# EAGLE library part AVR-ISP-6 (library candrian)
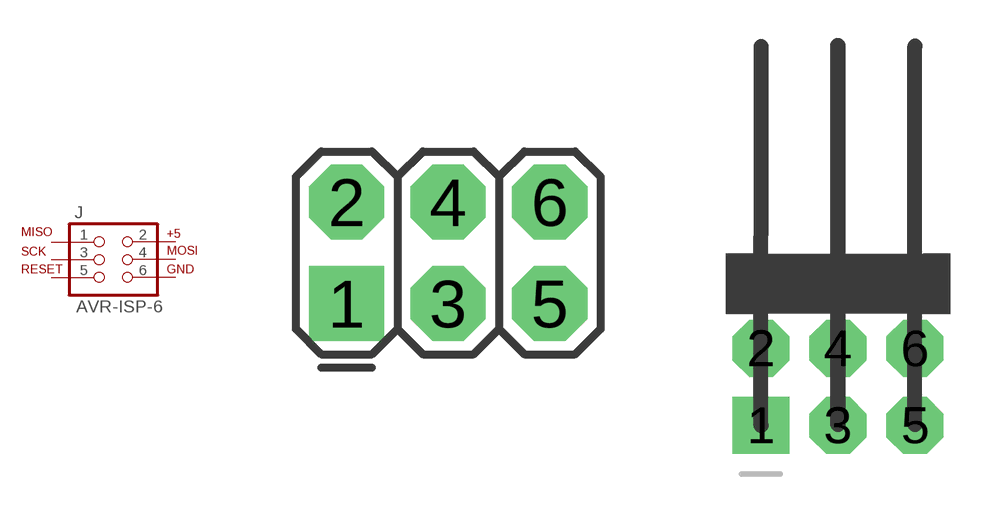
[diagram p8: symbol with the pads of AVR-ISP-6; footprints AVR-ISP-6, AVR-ISP-6/ANGLE]

Designator prefix J

## AVR-ISP-6  [AVR-ISP-6]
1  1  pas
2  2  pas
3  3  pas
4  4  pas
5  5  pas
6  6  pas

## AVR-ISP-6/ANGLE  [AVR-ISP-6/ANGLE]
Pads as for AVR-ISP-6

## Footprint AVR-ISP-6 (pad centres in mm)
drill 1.016 pad 1.88 square: 1 -2.54,-1.27
drill 1.016 pad 1.88 octagon: 2 -2.54,1.27; 3 0,-1.27; 4 0,1.27; 5 2.54,-1.27; 6 2.54,1.27

## Footprint AVR-ISP-6/ANGLE (pad centres in mm)
drill 1.016 pad 1.88 square: 1 -2.54,-1.27
drill 1.016 pad 1.88 octagon: 2 -2.54,1.27; 3 0,-1.27; 4 0,1.27; 5 2.54,-1.27; 6 2.54,1.27